# Altium schematic symbol library Header IDC 2.SchLib: 1 symbol
Pins are listed as number, name and electrical type; pins without a type are passive.

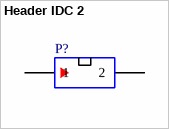
[diagram p0: symbol Header IDC 2]

## Header IDC 2
designator P?
Boxed/shrouded header, 2×1, 2-Pin (IDC)
pins: 1, 2